# Altium footprint library Crystal.PcbLib: 180 footprints (part 4 of 12)
Each footprint in its own frame and in the unit in brackets; x right, y up, seen from the top. Pads: shape width x height; smd on the part's side, far side on the other; paste and mask are expansions set on the pad; w line width, h text height; cw(c..) or ccw(c..) is an arc to the next point about the centre after c.
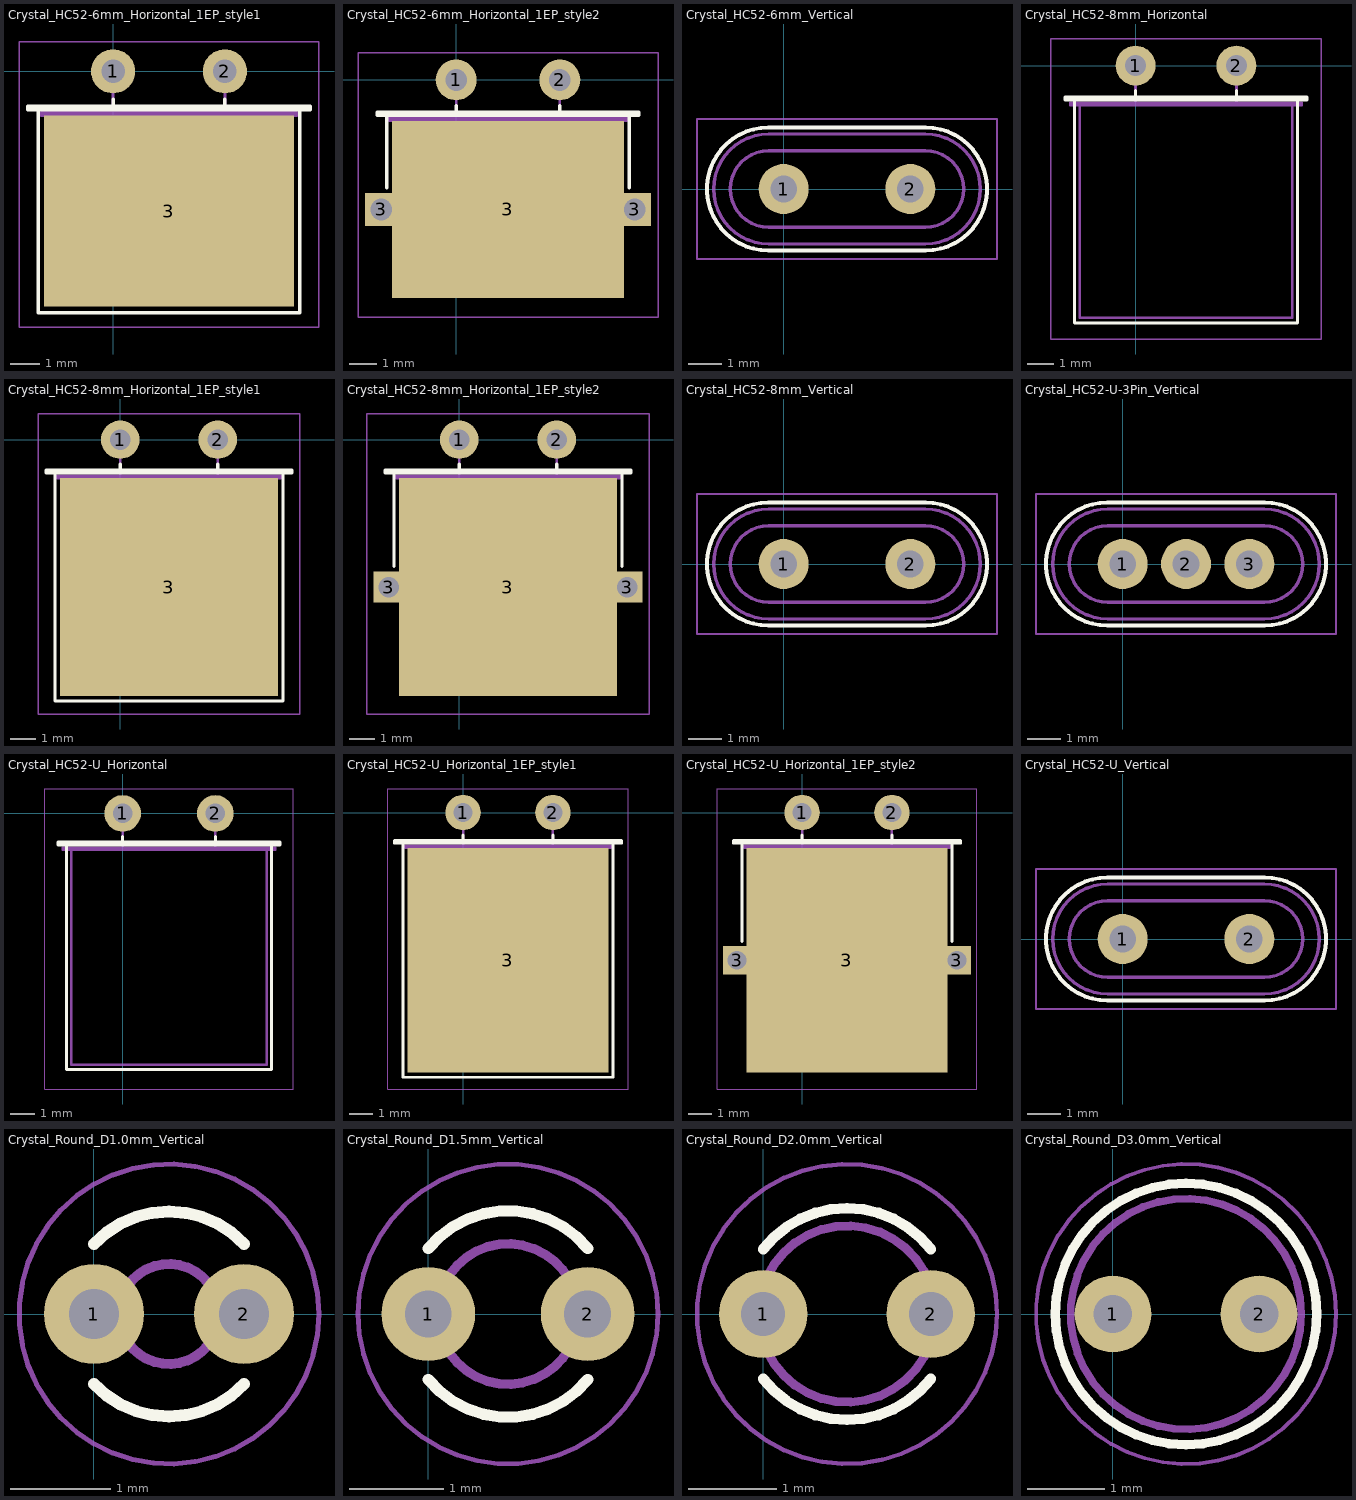
[diagram p3: the footprints below, top view; thin cyan lines are the x and y axes]

## Crystal_HC52-6mm_Horizontal_1EP_style1 [mm]
pads (3):
  round 1.5 hole 0.8: 1(0,0) 2(3.8,0)
  rect 8.5x6.5 smd: 3(1.9,-4.75)
F.SilkS:
  lines w0.12: 0,-1.3 0,-0.95 ; 3.8,-1.3 3.8,-0.95 ; -2.9,-1.3 6.7,-1.3 6.7,-1.18 -2.9,-1.18 -2.9,-1.3 ; -2.55,-8.2 6.35,-8.2 6.35,-1.3 -2.55,-1.3 -2.55,-8.2
F.CrtYd:
  lines w0.05: -3.2,-8.7 7,-8.7 7,1 -3.2,1 -3.2,-8.7
F.Fab:
  lines w0.1: 0,-1.5 0,-0.75 0,0 ; 3.8,-1.5 3.8,-0.75 3.8,0 ; -2.45,-1.5 6.25,-1.5 6.25,-1.4 -2.45,-1.4 -2.45,-1.5 ; -2.1,-7.5 5.9,-7.5 5.9,-1.5 -2.1,-1.5 -2.1,-7.5
  text "'.Designator'" at -2.147,-4.465 h1
3D body "Crystal_HC52-6mm_Horizontal_1EP_style1.step": height 3.4, standoff -3, extent -2.088,-7.5 5.888,0.248

## Crystal_HC52-6mm_Horizontal_1EP_style2 [mm]
pads (5):
  round 1.5 hole 0.8: 1(0,0) 2(3.8,0)
  rect 1.2x1.2 hole 0.8: 3(-2.75,-4.75) 3(6.55,-4.75)
  rect 8.5x6.5 smd: 3(1.9,-4.75)
F.SilkS:
  lines w0.12: -2.55,-3.95 -2.55,-1.3 6.35,-1.3 6.35,-3.95 ; 0,-1.3 0,-0.95 ; 3.8,-1.3 3.8,-0.95 ; -2.9,-1.3 6.7,-1.3 6.7,-1.18 -2.9,-1.18 -2.9,-1.3
F.CrtYd:
  lines w0.05: -3.6,-8.7 -3.6,1 7.4,1 7.4,-8.7 -3.6,-8.7
F.Fab:
  lines w0.1: -2.75,-4.75 6.55,-4.75 ; 0,-1.5 0,-0.75 0,0 ; 3.8,-1.5 3.8,-0.75 3.8,0 ; -2.45,-1.5 -2.45,-1.4 6.25,-1.4 6.25,-1.5 -2.45,-1.5 ; -2.1,-7.5 -2.1,-1.5 5.9,-1.5 5.9,-7.5 -2.1,-7.5
  text "'.Designator'" at -2.147,-4.465 h1
3D body "Crystal_HC52-6mm_Horizontal_1EP_style2.step": height 3.4, standoff -3, extent -2.088,-7.5 5.888,0.248

## Crystal_HC52-6mm_Vertical [mm]
pads (2):
  round 1.5 hole 0.8: 1(0,0) 2(3.8,0)
F.SilkS:
  lines w0.12: -0.45,-1.85 cw(c-0.45,0) -0.45,1.85 4.25,1.85 cw(c4.25,0) 4.25,-1.85 -0.45,-1.85
F.CrtYd:
  lines w0.05: -2.6,-2.1 -2.6,2.1 6.4,2.1 6.4,-2.1 -2.6,-2.1
F.Fab:
  lines w0.1: -0.45,-1.65 cw(c-0.45,0) -0.45,1.65 4.25,1.65 cw(c4.25,0) 4.25,-1.65 -0.45,-1.65 ; -0.45,-1.15 cw(c-0.45,0) -0.45,1.15 4.25,1.15 cw(c4.25,0) 4.25,-1.15 -0.45,-1.15
  text "'.Designator'" at -2.147,-0.84 h1
3D body "Crystal_HC52-6mm_Vertical.step": height 6.1, standoff -2.9, extent -2.1,-1.65 5.9,1.65

## Crystal_HC52-8mm_Horizontal [mm]
pads (2):
  round 1.5 hole 0.8: 1(0,0) 2(3.8,0)
F.SilkS:
  lines w0.12: 0,-1.3 0,-0.95 ; 3.8,-1.3 3.8,-0.95 ; -2.65,-1.3 -2.65,-1.18 6.45,-1.18 6.45,-1.3 -2.65,-1.3 ; -2.3,-9.7 6.1,-9.7 6.1,-1.3 -2.3,-1.3 -2.3,-9.7
F.CrtYd:
  lines w0.05: -3.2,-10.3 -3.2,1 7,1 7,-10.3 -3.2,-10.3
F.Fab:
  lines w0.1: 0,-1.5 0,-0.75 0,0 ; 3.8,-1.5 3.8,-0.75 3.8,0 ; -2.45,-1.5 -2.45,-1.4 6.25,-1.4 6.25,-1.5 -2.45,-1.5 ; -2.1,-9.5 -2.1,-1.5 5.9,-1.5 5.9,-9.5 -2.1,-9.5
  text "'.Designator'" at -2.047,-5.59 h1
3D body "Crystal_HC52-8mm_Horizontal.step": height 3.4, standoff -3, extent -2.088,-9.5 5.888,0.248

## Crystal_HC52-8mm_Horizontal_1EP_style1 [mm]
pads (3):
  round 1.5 hole 0.8: 1(0,0) 2(3.8,0)
  rect 8.5x8.5 smd: 3(1.9,-5.75)
F.SilkS:
  lines w0.12: 0,-1.3 0,-0.95 ; 3.8,-1.3 3.8,-0.95 ; -2.9,-1.3 -2.9,-1.18 6.7,-1.18 6.7,-1.3 -2.9,-1.3 ; -2.55,-10.2 -2.55,-1.3 6.35,-1.3 6.35,-10.2 -2.55,-10.2
F.CrtYd:
  lines w0.05: -3.2,-10.7 7,-10.7 7,1 -3.2,1 -3.2,-10.7
F.Fab:
  lines w0.1: 0,-1.5 0,-0.75 0,0 ; 3.8,-1.5 3.8,-0.75 3.8,0 ; -2.45,-1.5 -2.45,-1.4 6.25,-1.4 6.25,-1.5 -2.45,-1.5 ; -2.1,-9.5 -2.1,-1.5 5.9,-1.5 5.9,-9.5 -2.1,-9.5
  text "'.Designator'" at -2.147,-5.465 h1
3D body "Crystal_HC52-8mm_Horizontal_1EP_style1.step": height 3.4, standoff -3, extent -2.088,-9.5 5.888,0.248

## Crystal_HC52-8mm_Horizontal_1EP_style2 [mm]
pads (5):
  round 1.5 hole 0.8: 1(0,0) 2(3.8,0)
  rect 1.2x1.2 hole 0.8: 3(-2.75,-5.75) 3(6.55,-5.75)
  rect 8.5x8.5 smd: 3(1.9,-5.75)
F.SilkS:
  lines w0.12: -2.55,-4.95 -2.55,-1.3 6.35,-1.3 6.35,-4.95 ; 0,-1.3 0,-0.95 ; 3.8,-1.3 3.8,-0.95 ; -2.9,-1.3 -2.9,-1.18 6.7,-1.18 6.7,-1.3 -2.9,-1.3
F.CrtYd:
  lines w0.05: -3.6,-10.7 -3.6,1 7.4,1 7.4,-10.7 -3.6,-10.7
F.Fab:
  lines w0.1: -2.75,-5.75 6.55,-5.75 ; 0,-1.5 0,-0.75 0,0 ; 3.8,-1.5 3.8,-0.75 3.8,0 ; -2.45,-1.5 6.25,-1.5 6.25,-1.4 -2.45,-1.4 -2.45,-1.5 ; -2.1,-9.5 -2.1,-1.5 5.9,-1.5 5.9,-9.5 -2.1,-9.5
  text "'.Designator'" at -2.147,-5.465 h1
3D body "Crystal_HC52-8mm_Horizontal_1EP_style2.step": height 3.4, standoff -3, extent -2.088,-9.5 5.888,0.248

## Crystal_HC52-8mm_Vertical [mm]
pads (2):
  round 1.5 hole 0.8: 1(0,0) 2(3.8,0)
F.SilkS:
  lines w0.12: -0.45,-1.85 cw(c-0.45,0) -0.45,1.85 4.25,1.85 cw(c4.25,0) 4.25,-1.85 -0.45,-1.85
F.CrtYd:
  lines w0.05: -2.6,-2.1 -2.6,2.1 6.4,2.1 6.4,-2.1 -2.6,-2.1
F.Fab:
  lines w0.1: -0.45,-1.65 cw(c-0.45,0) -0.45,1.65 4.25,1.65 cw(c4.25,0) 4.25,-1.65 -0.45,-1.65 ; -0.45,-1.15 cw(c-0.45,0) -0.45,1.15 4.25,1.15 cw(c4.25,0) 4.25,-1.15 -0.45,-1.15
  text "'.Designator'" at -2.147,-0.84 h1
3D body "Crystal_HC52-8mm_Vertical.step": height 8.1, standoff -2.9, extent -2.1,-1.65 5.9,1.65

## Crystal_HC52-U-3Pin_Vertical [mm]
pads (3):
  round 1.5 hole 0.8: 1(0,0) 2(1.9,0) 3(3.8,0)
F.SilkS:
  lines w0.12: -0.45,-1.85 cw(c-0.45,0) -0.45,1.85 4.25,1.85 cw(c4.25,0) 4.25,-1.85 -0.45,-1.85
F.CrtYd:
  lines w0.05: -2.6,-2.1 6.4,-2.1 6.4,2.1 -2.6,2.1 -2.6,-2.1
F.Fab:
  lines w0.1: -0.45,-1.65 cw(c-0.45,0) -0.45,1.65 4.25,1.65 cw(c4.25,0) 4.25,-1.65 -0.45,-1.65 ; -0.45,-1.15 cw(c-0.45,0) -0.45,1.15 4.25,1.15 cw(c4.25,0) 4.25,-1.15 -0.45,-1.15
  text "'.Designator'" at -2.147,-0.84 h1
3D body "Crystal_HC52-U-3Pin_Vertical.step": height 8.9, standoff -2.9, extent -2.1,-1.65 5.9,1.65

## Crystal_HC52-U_Horizontal [mm]
pads (2):
  round 1.5 hole 0.8: 1(0,0) 2(3.8,0)
F.SilkS:
  lines w0.12: 0,-1.3 0,-0.95 ; 3.8,-1.3 3.8,-0.95 ; -2.65,-1.3 -2.65,-1.18 6.45,-1.18 6.45,-1.3 -2.65,-1.3 ; -2.3,-10.5 -2.3,-1.3 6.1,-1.3 6.1,-10.5 -2.3,-10.5
F.CrtYd:
  lines w0.05: -3.2,-11.3 -3.2,1 7,1 7,-11.3 -3.2,-11.3
F.Fab:
  lines w0.1: 0,-1.5 0,-0.75 0,0 ; 3.8,-1.5 3.8,-0.75 3.8,0 ; -2.45,-1.5 6.25,-1.5 6.25,-1.4 -2.45,-1.4 -2.45,-1.5 ; -2.1,-10.3 -2.1,-1.5 5.9,-1.5 5.9,-10.3 -2.1,-10.3
  text "'.Designator'" at -1.797,-6.09 h1
3D body "Crystal_HC52-U_Horizontal.step": height 3.4, standoff -3, extent -2.088,-10.3 5.888,0.248

## Crystal_HC52-U_Horizontal_1EP_style1 [mm]
pads (3):
  round 1.5 hole 0.8: 1(0,0) 2(3.8,0)
  rect 8.5x9.5 smd: 3(1.9,-6.25)
F.SilkS:
  lines w0.12: 0,-1.3 0,-0.95 ; 3.8,-1.3 3.8,-0.95 ; -2.9,-1.3 6.7,-1.3 6.7,-1.18 -2.9,-1.18 -2.9,-1.3 ; -2.55,-11.2 -2.55,-1.3 6.35,-1.3 6.35,-11.2 -2.55,-11.2
F.CrtYd:
  lines w0.05: -3.2,-11.7 -3.2,1 7,1 7,-11.7 -3.2,-11.7
F.Fab:
  lines w0.1: 0,-1.5 0,-0.75 0,0 ; 3.8,-1.5 3.8,-0.75 3.8,0 ; -2.45,-1.5 -2.45,-1.4 6.25,-1.4 6.25,-1.5 -2.45,-1.5 ; -2.1,-10.3 -2.1,-1.5 5.9,-1.5 5.9,-10.3 -2.1,-10.3
  text "'.Designator'" at -2.147,-5.965 h1
3D body "Crystal_HC52-U_Horizontal_1EP_style1.step": height 3.4, standoff -3, extent -2.088,-10.3 5.888,0.248

## Crystal_HC52-U_Horizontal_1EP_style2 [mm]
pads (5):
  round 1.5 hole 0.8: 1(0,0) 2(3.8,0)
  rect 1.2x1.2 hole 0.8: 3(-2.75,-6.25) 3(6.55,-6.25)
  rect 8.5x9.5 smd: 3(1.9,-6.25)
F.SilkS:
  lines w0.12: -2.55,-5.45 -2.55,-1.3 6.35,-1.3 6.35,-5.45 ; 0,-1.3 0,-0.95 ; 3.8,-1.3 3.8,-0.95 ; -2.9,-1.3 6.7,-1.3 6.7,-1.18 -2.9,-1.18 -2.9,-1.3
F.CrtYd:
  lines w0.05: -3.6,-11.7 -3.6,1 7.4,1 7.4,-11.7 -3.6,-11.7
F.Fab:
  lines w0.1: -2.75,-6.25 6.55,-6.25 ; 0,-1.5 0,-0.75 0,0 ; 3.8,-1.5 3.8,-0.75 3.8,0 ; -2.45,-1.5 -2.45,-1.4 6.25,-1.4 6.25,-1.5 -2.45,-1.5 ; -2.1,-10.3 -2.1,-1.5 5.9,-1.5 5.9,-10.3 -2.1,-10.3
  text "'.Designator'" at -2.147,-5.965 h1
3D body "Crystal_HC52-U_Horizontal_1EP_style2.step": height 3.4, standoff -3, extent -2.088,-10.3 5.888,0.248

## Crystal_HC52-U_Vertical [mm]
pads (2):
  round 1.5 hole 0.8: 1(0,0) 2(3.8,0)
F.SilkS:
  lines w0.12: -0.45,-1.85 cw(c-0.45,0) -0.45,1.85 4.25,1.85 cw(c4.25,0) 4.25,-1.85 -0.45,-1.85
F.CrtYd:
  lines w0.05: -2.6,-2.1 6.4,-2.1 6.4,2.1 -2.6,2.1 -2.6,-2.1
F.Fab:
  lines w0.1: -0.45,-1.65 cw(c-0.45,0) -0.45,1.65 4.25,1.65 cw(c4.25,0) 4.25,-1.65 -0.45,-1.65 ; -0.45,-1.15 cw(c-0.45,0) -0.45,1.15 4.25,1.15 cw(c4.25,0) 4.25,-1.15 -0.45,-1.15
  text "'.Designator'" at -2.147,-0.84 h1
3D body "Crystal_HC52-U_Vertical.step": height 8.9, standoff -2.9, extent -2.1,-1.65 5.9,1.65

## Crystal_Round_D1.0mm_Vertical [mm]
pads (2):
  round 1 hole 0.5: 1(0,0) 2(1.5,0)
F.SilkS:
  lines w0.12: 0,-0.7 ccw(c0.75,0) 1.499,-0.701 ; 0,0.7 cw(c0.75,0) 1.499,0.701
F.CrtYd:
  circle w0.05: c0.75,0 r1.5
F.Fab:
  circle w0.1: c0.75,0 r0.5
  text "'.Designator'" at -1.678,-0.504 h0.6
3D body "Crystal_Round_D1.0mm_Vertical.step": height 4.97, standoff -2.9, extent -0.075,-0.496 1.575,0.496

## Crystal_Round_D1.5mm_Vertical [mm]
pads (2):
  round 1 hole 0.5: 1(0,0) 2(1.7,0)
F.SilkS:
  lines w0.12: 0,-0.7 ccw(c0.85,0) 1.701,-0.699 ; 0,0.7 cw(c0.85,0) 1.701,0.699
F.CrtYd:
  circle w0.05: c0.85,0 r1.6
F.Fab:
  circle w0.1: c0.85,0 r0.75
  text "'.Designator'" at -1.578,-0.504 h0.6
3D body "Crystal_Round_D1.5mm_Vertical.step": height 5.46, standoff -2.9, extent -0.1,-0.745 1.8,0.745

## Crystal_Round_D2.0mm_Vertical [mm]
pads (2):
  round 1 hole 0.5: 1(0,0) 2(1.9,0)
F.SilkS:
  lines w0.12: 0,-0.733 ccw(c0.95,0) 1.9,-0.733 ; 0,0.733 cw(c0.95,0) 1.9,0.733
F.CrtYd:
  circle w0.05: c0.95,0 r1.7
F.Fab:
  circle w0.1: c0.95,0 r1
  text "'.Designator'" at -1.883,-0.588 h0.7
3D body "Crystal_Round_D2.0mm_Vertical.step": height 6.96, standoff -2.9, extent -0.1,-0.993 2,0.993

## Crystal_Round_D3.0mm_Vertical [mm]
pads (2):
  round 1 hole 0.5: 1(0,0) 2(1.9,0)
F.SilkS:
  lines w0.12: -0.75,0 cw(c0.95,0) 2.65,0 cw(c0.95,0) -0.75,0
F.CrtYd:
  circle w0.05: c0.95,0 r1.95
F.Fab:
  circle w0.1: c0.95,0 r1.5
  text "'.Designator'" at -1.883,-0.588 h0.7
3D body "Crystal_Round_D3.0mm_Vertical.step": height 8.96, standoff -2.9, extent -0.55,-1.489 2.45,1.489